# Altium footprint library lun.PcbLib: 19 footprints (part 1 of 2)
Each footprint in its own frame and in the unit in brackets; x right, y up, seen from the top. Pads: shape width x height; smd on the part's side, far side on the other; paste and mask are expansions set on the pad; w line width, h text height; cw(c..) or ccw(c..) is an arc to the next point about the centre after c.
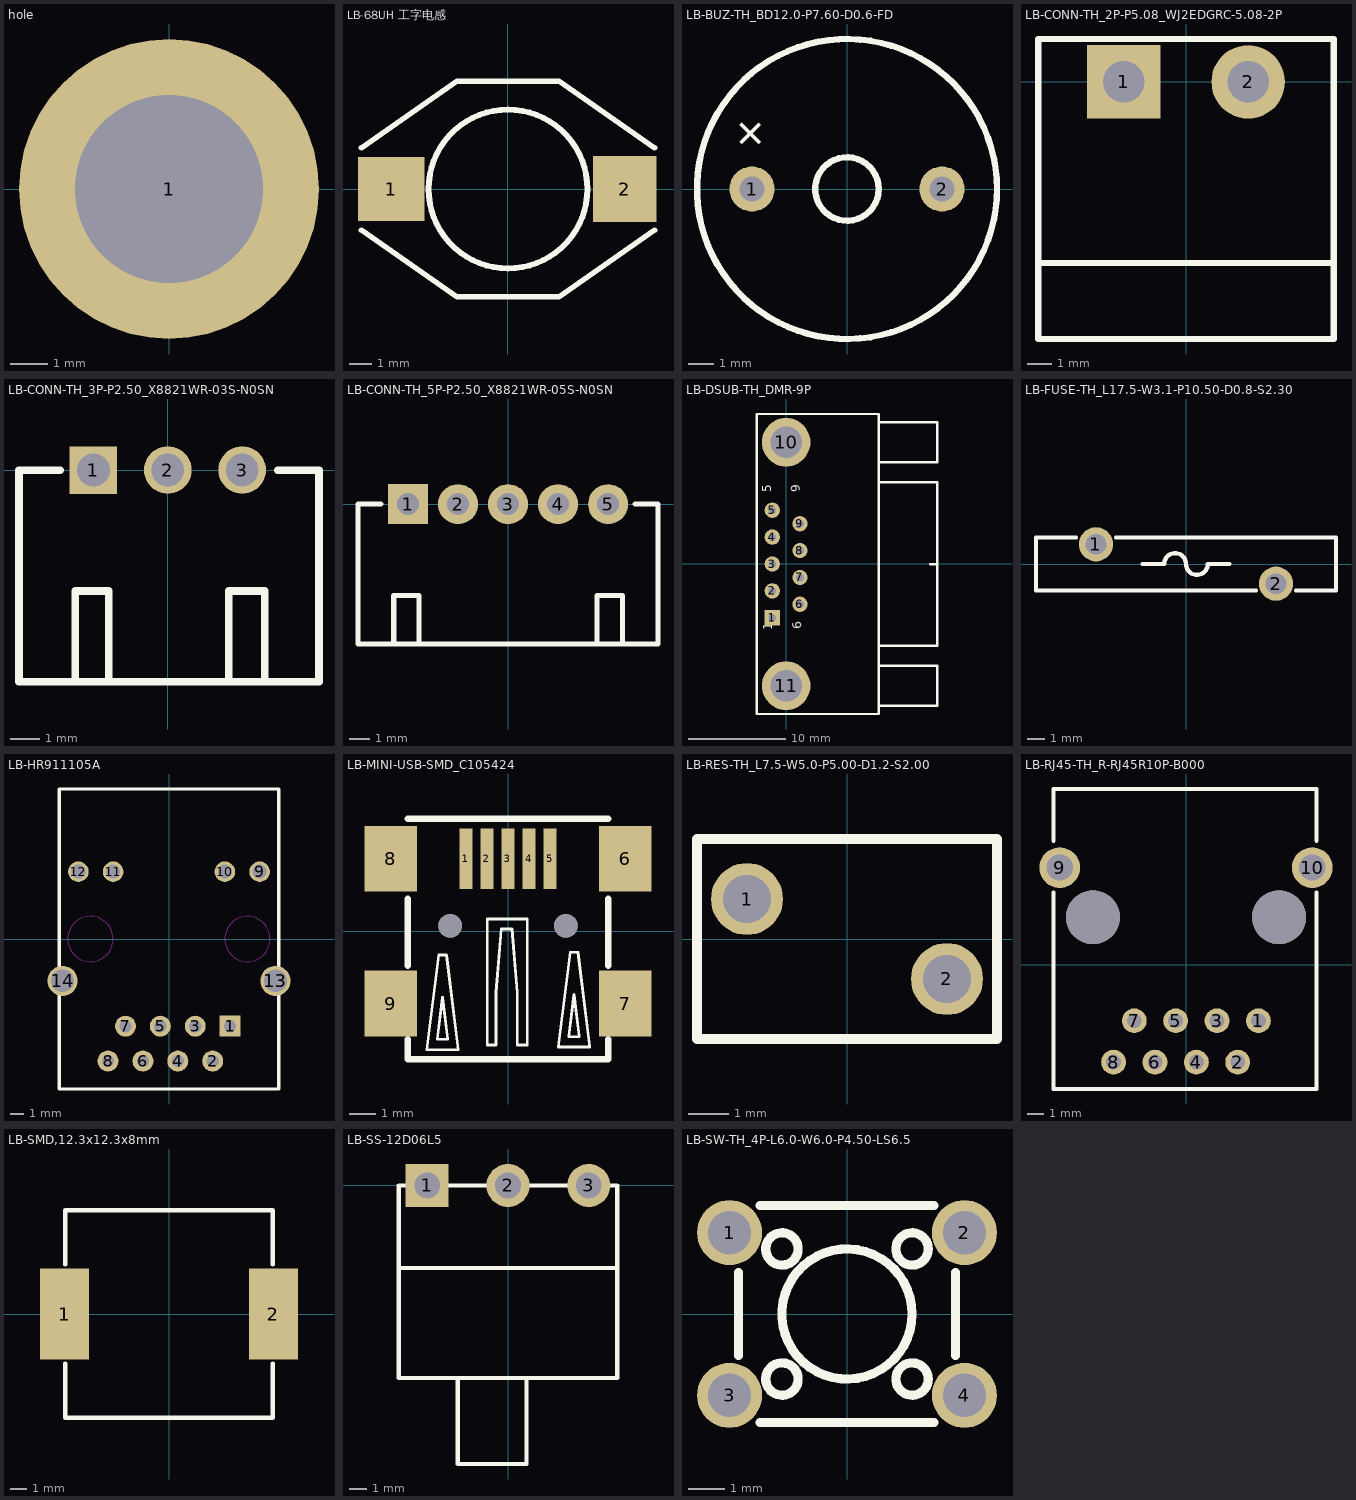
[diagram p0: the footprints below, top view; thin cyan lines are the x and y axes]

## hole [mm]
pads (1):
  round 8 hole 5: 1(0,0)

## JK30 [mm]

## LB-68UH 工字电感 [mm]
pads (2):
  rect 2.92x2.8 smd: 1(-5.15,0)
  rect 2.8x2.92 smd: 2(5.15,0)
Top Overlay:
  circle w0.254: c0,0 r3.5
  lines w0.254: -6.454,-1.816 -2.25,-4.75 2.25,-4.75 6.454,-1.816 ; -6.454,1.816 -2.25,4.75 2.25,4.75 6.454,1.816

## LB-BUZ-TH_BD12.0-P7.60-D0.6-FD [mm]
pads (2):
  round 1.8 hole 1: 1(-3.8,0) 2(3.8,0)
Top Overlay:
  circle w0.254: c0,0 r6
  circle w0.254: c0,0 r1.27
  text "+" at -3.996,1.316 h1.27

## LB-CONN-TH_2P-P5.08_WJ2EDGRC-5.08-2P [mm]
pads (2):
  rect 3x3 hole 1.7: 1(-2.54,0)
  round 3 hole 1.7: 2(2.54,0)
Top Overlay:
  lines w0.254: -6.03,-7.4 6.03,-7.4 ; -6.03,1.7 -6.03,-10.5 6.03,-10.5 6.03,1.7 ; -6.03,1.75 6.03,1.75

## LB-CONN-TH_3P-P2.50_X8821WR-03S-N0SN [mm]
pads (3):
  rect 1.6x1.6 hole 1.1: 1(-2.5,0)
  round 1.6 hole 1.1: 2(0,0) 3(2.5,0)
Top Overlay:
  lines w0.254: -3.616,0 -5,0 -5,-7.112 5,-7.112 ; -3.108,-7.112 -3.108,-4.064 -1.978,-4.064 -1.978,-7.112 ; 2.045,-7.112 2.045,-4.064 3.251,-4.064 3.251,-7.112 ; 3.696,0 5.08,0 5.08,-7.112

## LB-CONN-TH_5P-P2.50_X8821WR-05S-N0SN [mm]
pads (5):
  rect 2x2 hole 1.1: 1(-5,0)
  round 2 hole 1.1: 2(-2.5,0) 3(0,0) 4(2.5,0) 5(5,0)
Top Overlay:
  lines w0.254: -7.5,-6.985 -7.5,0.015 -6.35,0.015 ; -7.499,-6.985 7.494,-6.985 ; 6.35,0.015 7.493,0.015 7.493,-6.985 ; -5.715,-6.985 -5.715,-4.572 -4.445,-4.572 -4.445,-6.985 -5.715,-6.985 ; 4.445,-6.985 4.445,-4.572 5.715,-4.572 5.715,-6.985 4.445,-6.985

## LB-DSUB-TH_DMR-9P [mm]
pads (11):
  rect 1.575x1.575 hole 0.8: 1(-1.42,-5.52)
  round 1.575 hole 0.8: 2(-1.42,-2.76) 3(-1.42,0) 4(-1.42,2.76) 5(-1.42,5.52) 6(1.42,-4.14) 7(1.42,-1.38) 8(1.42,1.38) 9(1.42,4.14)
  round 5 hole 3.25: 10(0,12.5) 11(0,-12.5)
Top Overlay:
  lines w0.254: 9.5,-14.57 15.5,-14.57 ; 9.5,-10.43 15.5,-10.43 15.5,-14.54 ; 9.5,-8.38 15.5,-8.38 15.5,8.37 9.5,8.37 ; 9.5,10.43 15.5,10.43 ; 9.5,14.57 15.499,14.57 15.499,10.46 ; 14.78,-0.005 15.48,-0.005 ; -3,-15.4 -3,15.4 9.5,15.4 9.5,-15.4 -3,-15.4
  text "9" at 1.461,7.413 h0.89
  text "6" at 1.614,-6.659 h0.89
  text "1" at -1.433,-6.799 h0.89
  text "5" at -1.534,7.349 h0.89

## LB-FUSE-TH_L17.5-W3.1-P10.50-D0.8-S2.30 [mm]
pads (2):
  round 2 hole 1.2: 1(-5.25,1.15) 2(5.25,-1.15)
Top Overlay:
  lines w0.254: -6.414,1.55 -8.75,1.55 -8.75,-1.55 4.086,-1.55 ; -4.086,1.55 8.75,1.55 8.75,-1.55 6.414,-1.55 ; -2.54,0 -1.27,0 cw(c-0.635,0) 0,0 ccw(c0.635,0) 1.27,0 2.54,0

## LB-HR911105A [mm]
pads (14):
  rect 1.524x1.524 hole 0.889: 1(4.45,-6.35)
  round 1.524 hole 0.889: 2(3.18,-8.89) 3(1.91,-6.35) 4(0.64,-8.89) 5(-0.63,-6.35) 6(-1.9,-8.89) 7(-3.17,-6.35) 8(-4.44,-8.89)
  round 1.5 hole 1.02: 9(6.6,4.9) 10(4.064,4.9) 11(-4.064,4.9) 12(-6.6,4.9)
  round 2.2 hole 1.65: 13(7.75,-3.048) 14(-7.75,-3.048)
Top Overlay:
  lines w0.254: -8,-10.922 -8,10.922 0,10.922 8,10.922 8,-10.922 0,-10.922 -8,-10.922
Keep-Out Layer:
  circle w0.051: c-5.714,0 r1.65
  circle w0.051: c5.716,0 r1.65

## LB-MINI-USB-SMD_C105424 [mm]
pads (11):
  rect 0.5x2.3 smd: 1(-1.6,2.75) 2(-0.8,2.75) 3(0,2.75) 4(0.8,2.75) 5(1.6,2.75)
  rect 2x2.5 smd: 6(4.45,2.75) 7(4.45,-2.75) 8(-4.45,2.75) 9(-4.45,-2.75)
  round 0.9 hole 0.9 unplated: ""(-2.2,0.2) ""(2.2,0.2)
Top Overlay:
  lines w0.102: -3.086,-4.507 -2.637,-0.908 -2.337,-0.908 -1.887,-4.507 -3.086,-4.507 ; -2.687,-4.108 -2.487,-2.508 -2.286,-4.108 -2.687,-4.108 ; -0.79,-4.329 -0.79,0.464 -0.762,0.464 0.737,0.464 0.737,-4.329 0.356,-4.329 0.356,-2.33 0.153,0.083 -0.254,0.083 -0.457,-2.33 -0.457,-4.329 -0.79,-4.329 ; 1.91,-4.405 2.36,-0.806 2.659,-0.806 3.109,-4.405 1.91,-4.405 ; 2.309,-4.006 2.509,-2.406 2.71,-4.006 2.309,-4.006
  lines w0.254: -3.81,-4.108 -3.81,-4.87 3.81,-4.87 3.81,-4.108 ; -3.81,-1.314 -3.81,1.226 ; -3.81,4.274 0,4.274 3.81,4.274 ; 3.81,-1.314 3.81,1.226

## LB-RES-TH_L7.5-W5.0-P5.00-D1.2-S2.00 [mm]
pads (2):
  round 1.8 hole 1.2: 1(-2.5,1) 2(2.5,-1)
Top Overlay:
  lines w0.254: -3.75,-2.5 3.75,-2.5 3.75,2.5 -3.75,2.5 -3.75,-2.5

## LB-RJ45-TH_R-RJ45R10P-B000 [mm]
pads (12):
  round 1.524 hole 0.914: 1(4.445,-3.43) 2(3.175,-5.97) 3(1.905,-3.43) 4(0.635,-5.97) 5(-0.635,-3.43) 6(-1.905,-5.97) 7(-3.175,-3.43) 8(-4.445,-5.97)
  round 2.5 hole 1.6: 9(-7.75,5.97) 10(7.75,5.97)
  round 3.3 hole 3.3 unplated: ""(-5.715,2.92) ""(5.715,2.92)
Top Overlay:
  lines w0.254: -8.128,4.445 -8.128,-7.62 -7.9,-7.62 7.9,-7.62 8.001,-7.62 8.001,4.445 ; -8.128,7.62 -8.128,10.795 8.001,10.795 8.001,7.62

## LB-SMD,12.3x12.3x8mm [mm]
pads (2):
  rect 2.9x5.4 smd: 1(-6.2,0) 2(6.2,0)
Top Overlay:
  lines w0.254: -6.15,-2.931 -6.15,-6.15 6.15,-6.15 6.15,-2.931 ; -6.15,2.931 -6.15,6.15 6.15,6.15 6.15,2.931

## LB-SS-12D06L5 [mm]
pads (3):
  rect 2.5x2.5 hole 1.5: 1(-4.7,0)
  round 2.5 hole 1.5: 2(0,0) 3(4.7,0)
Top Overlay:
  lines w0.254: -6.35,-4.8 6.35,-4.8 ; -6.35,-11.2 -6.35,0 6.35,0 6.35,-11.2 -6.35,-11.2 ; -2.921,-16.2 -2.921,-11.2 1.079,-11.2 1.079,-16.2 -2.921,-16.2

## LB-SW-TH_4P-L6.0-W6.0-P4.50-LS6.5 [mm]
pads (4):
  round 1.8 hole 1.2: 1(-3.25,2.25) 2(3.25,2.25) 3(-3.25,-2.25) 4(3.25,-2.25)
Top Overlay:
  circle w0.254: c0,0 r1.8
  circle w0.254: c1.8,1.8 r0.447
  circle w0.254: c-1.8,1.8 r0.447
  circle w0.254: c-1.8,-1.8 r0.447
  circle w0.254: c1.8,-1.8 r0.447
  lines w0.254: -3,-1.147 -3,1.147 ; -2.404,-3 2.404,-3 ; -2.404,3 2.404,3 ; 3,-1.147 3,1.147